# Altium schematic symbol library S25FL216KOPMFI040.Schlib: 1 symbol
Pins are listed as number, name and electrical type; pins without a type are passive.

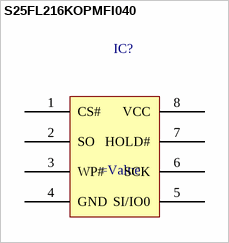
[diagram p0: symbol S25FL216KOPMFI040]

## S25FL216KOPMFI040
designator IC?
=Description
pins: 1 CS#, 2 SO, 3 WP#, 4 GND, 5 SI/IO0, 6 SCK, 7 HOLD#, 8 VCC